# Altium footprint library 2SK2645.PcbLib: 1 footprints
Each footprint in its own frame and in the unit in brackets; x right, y up, seen from the top. Pads: shape width x height; smd on the part's side, far side on the other; paste and mask are expansions set on the pad; w line width, h text height; cw(c..) or ccw(c..) is an arc to the next point about the centre after c.
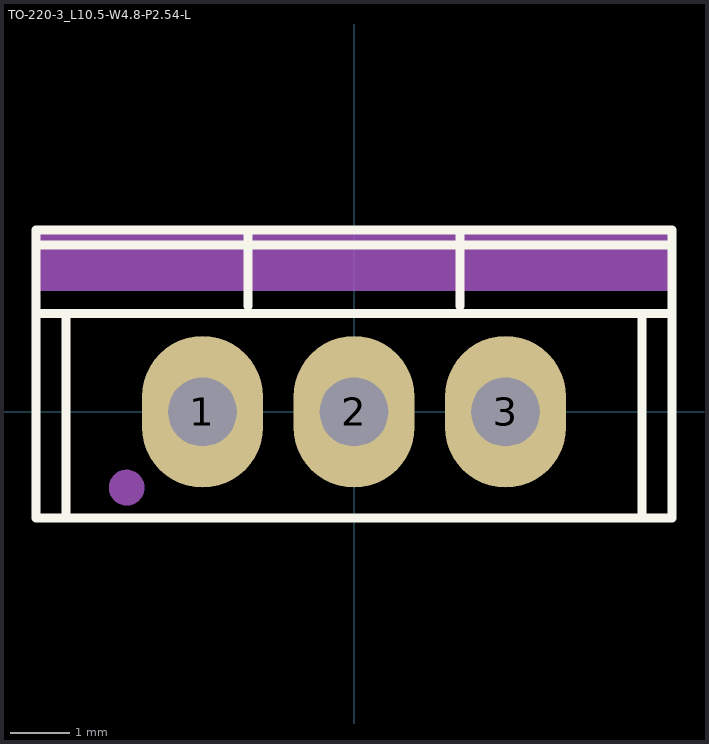
[diagram p0: the footprint, top view; thin cyan lines are the x and y axes]

## TO-220-3_L10.5-W4.8-P2.54-L [mil]
pads (3):
  oval 80x100 hole 45 slot 45.2 at 90 deg paste-99999 mask+2: 1(-100,0) 2(0,0) 3(100,0)
Top Overlay:
  lines w5.91: -210,65 210,65 ; -210,110 210,110 ; -190,-70 -190,65 ; -70,70 -70,120 ; 70,70 70,120 ; 190,-70 190,65 ; -210,-70 -210,120 210,120 210,-70 -210,-70
Mechanical 15:
  circle w11.81: c-150,-50 r5.91
  region: -210,120 210,120 210,80 -210,80
3D body "Diode_Vishay_MBR20100CT-E3-4W_eec.STEP": height 10, standoff 0, extent -211.42,-96.45 211.41,96.46